# Altium footprint library pcb_lib_own_.PcbLib: 26 footprints (part 2 of 2)
Each footprint in its own frame and in the unit in brackets; x right, y up, seen from the top. Pads: shape width x height; smd on the part's side, far side on the other; paste and mask are expansions set on the pad; w line width, h text height; cw(c..) or ccw(c..) is an arc to the next point about the centre after c.
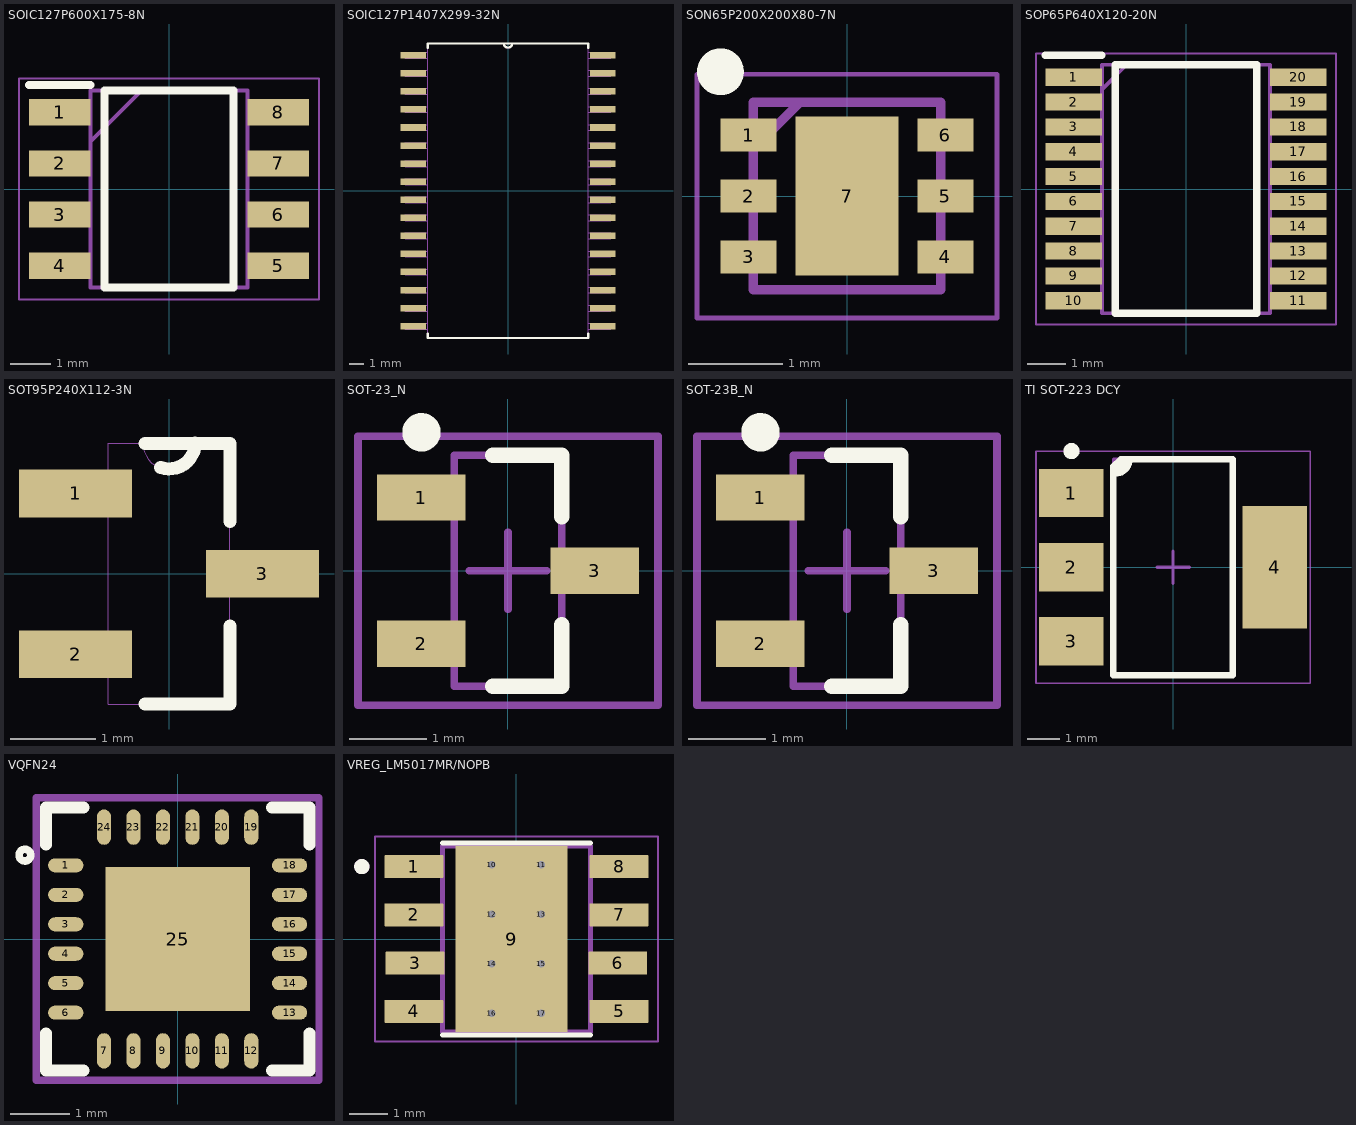
[diagram p1: the footprints below, top view; thin cyan lines are the x and y axes]

## SOIC127P600X175-8N [mm]
pads (8):
  rect 1.525x0.65 smd: 1(-2.712,1.905) 2(-2.712,0.635) 3(-2.712,-0.635) 4(-2.712,-1.905) 5(2.712,-1.905) 6(2.712,-0.635) 7(2.712,0.635) 8(2.712,1.905)
Top Overlay:
  lines w0.2: -3.475,2.58 -1.95,2.58 ; -1.6,-2.45 -1.6,2.45 1.6,2.45 1.6,-2.45 -1.6,-2.45
Mechanical 13:
  lines w0.1: -1.95,1.18 -0.68,2.45 ; -1.95,-2.45 -1.95,2.45 1.95,2.45 1.95,-2.45 -1.95,-2.45
Mechanical 15:
  lines w0.05: -3.725,-2.75 -3.725,2.75 3.725,2.75 3.725,-2.75 -3.725,-2.75
3D body "NE555DR.stp": height 1.75, standoff 0, extent -3,-2.45 3,2.45

## SOIC127P1407X299-32N [mil]
pads (32):
  rect 71x18 smd: 1(-262,375) 2(-262,325) 3(-262,275) 4(-262,225) 5(-262,175) 6(-262,125) 7(-262,75) 8(-262,25) 9(-262,-25) 10(-262,-75) 11(-262,-125) 12(-262,-175) 13(-262,-225) 14(-262,-275) 15(-262,-325) 16(-262,-375) 17(262,-375) 18(262,-325) 19(262,-275) 20(262,-225) 21(262,-175) 22(262,-125) 23(262,-75) 24(262,-25) 25(262,25) 26(262,75) 27(262,125) 28(262,175) 29(262,225) 30(262,275) 31(262,325) 32(262,375)
Top Overlay:
  lines w6: -222,-396 -222,-408 222,-408 222,-396 ; -222,396 -222,408 -12,408 ; 222,396 222,408 12,408 ; -12,408 ccw(c0,408) 12,408 ; -12,408 12,408
Mechanical 13:
  lines w0: -12,408 ccw(c0,408) 12,408 ; -12,408 12,408 ; -12,408 -222,408 -222,-408 222,-408 222,408 12,408 ; -284,-383 -284,-367 -222,-367 -222,-383 -284,-383 ; -284,-333 -284,-317 -222,-317 -222,-333 -284,-333 ; -284,-283 -284,-267 -222,-267 -222,-283 -284,-283 ; -284,-233 -284,-217 -222,-217 -222,-233 -284,-233 ; -284,-183 -284,-167 -222,-167 -222,-183 -284,-183 ; -284,-133 -284,-117 -222,-117 -222,-133 -284,-133 ; -284,-83 -284,-67 -222,-67 -222,-83 -284,-83 ; -284,-33 -284,-17 -222,-17 -222,-33 -284,-33 ; -284,17 -284,33 -222,33 -222,17 -284,17 ; -284,67 -284,83 -222,83 -222,67 -284,67 ; -284,117 -284,133 -222,133 -222,117 -284,117 ; -284,167 -284,183 -222,183 -222,167 -284,167 ; -284,217 -284,233 -222,233 -222,217 -284,217 ; -284,267 -284,283 -222,283 -222,267 -284,267 ; -284,317 -284,333 -222,333 -222,317 -284,317 ; -284,367 -284,383 -222,383 -222,367 -284,367 ; 222,-383 222,-367 284,-367 284,-383 222,-383 ; 222,-333 222,-317 284,-317 284,-333 222,-333 ; 222,-283 222,-267 284,-267 284,-283 222,-283 ; 222,-233 222,-217 284,-217 284,-233 222,-233 ; 222,-183 222,-167 284,-167 284,-183 222,-183 ; 222,-133 222,-117 284,-117 284,-133 222,-133 ; 222,-83 222,-67 284,-67 284,-83 222,-83 ; 222,-33 222,-17 284,-17 284,-33 222,-33 ; 222,17 222,33 284,33 284,17 222,17 ; 222,67 222,83 284,83 284,67 222,67 ; 222,117 222,133 284,133 284,117 222,117 ; 222,167 222,183 284,183 284,167 222,167 ; 222,217 222,233 284,233 284,217 222,217 ; 222,267 222,283 284,283 284,267 222,267 ; 222,317 222,333 284,333 284,317 222,317 ; 222,367 222,383 284,383 284,367 222,367
3D body "AS6C1008-55SIN.stp": height 117.99, standoff 0, extent -282.5,-408.46 272.5,408.46

## SON65P200X200X80-7N [mm]
pads (7):
  rect 0.6x0.35 smd: 1(-1.05,0.65) 2(-1.05,0) 3(-1.05,-0.65) 4(1.05,-0.65) 5(1.05,0) 6(1.05,0.65)
  rect 1.1x1.7 smd: 7(0,0)
Top Overlay:
  circle w0.25: c-1.35,1.325 r0.125
Mechanical 13:
  lines w0.1: -1,0.5 -0.5,1 ; -1,-1 -1,1 1,1 1,-1 -1,-1
Mechanical 15:
  lines w0.05: -1.6,-1.3 -1.6,1.3 1.6,1.3 1.6,-1.3 -1.6,-1.3
3D body "LP5912-3.3DRVR.stp": height 0.8, standoff 0, extent -1,-1 1,1

## SOP65P640X120-20N [mm]
pads (20):
  rect 1.475x0.45 smd: 1(-2.938,2.925) 2(-2.938,2.275) 3(-2.938,1.625) 4(-2.938,0.975) 5(-2.938,0.325) 6(-2.938,-0.325) 7(-2.938,-0.975) 8(-2.938,-1.625) 9(-2.938,-2.275) 10(-2.938,-2.925) 11(2.938,-2.925) 12(2.938,-2.275) 13(2.938,-1.625) 14(2.938,-0.975) 15(2.938,-0.325) 16(2.938,0.325) 17(2.938,0.975) 18(2.938,1.625) 19(2.938,2.275) 20(2.938,2.925)
Top Overlay:
  lines w0.2: -3.675,3.5 -2.2,3.5 ; -1.85,-3.25 1.85,-3.25 1.85,3.25 -1.85,3.25 -1.85,-3.25
Mechanical 13:
  lines w0.1: -2.2,2.6 -1.55,3.25 ; -2.2,-3.25 2.2,-3.25 2.2,3.25 -2.2,3.25 -2.2,-3.25
Mechanical 15:
  lines w0.05: -3.925,-3.55 3.925,-3.55 3.925,3.55 -3.925,3.55 -3.925,-3.55
3D body "PCF8574PWR.stp": height 1.13, standoff 0, extent -3.2,-3.25 3.2,3.25

## SOT95P240X112-3N [mil]
pads (3):
  rect 52x22 smd: 1(-43,37) 2(-43,-37) 3(43,0)
Top Overlay:
  lines w6: -11,-60 28,-60 28,-24 ; -11,60 12,60 28,60 28,24 ; -3.9,48.96 ccw(c0.15,60.1) 12,60.1
Mechanical 13:
  lines w0: -28,-47 -52,-47 -52,-28 -28,-28 ; -28,-47 -28,-28 ; -28,-47 -28,-60 28,-60 28,-10 ; -28,-28 -28,28 ; -28,28 -52,28 -52,47 -28,47 ; -28,28 -28,47 ; -28,47 -28,60 -12,60 ; -12,60 ccw(c0,60) 12,60 ; -12,60 12,60 ; 12,60 28,60 28,10 ; 28,-10 52,-10 52,10 28,10 ; 28,-10 28,10
3D body "IRLML6344TRPBF.STEP": height 44.09, standoff 0, extent -54.41,-57.48 44.41,57.48

## SOT-23_N [mm] "SOT23, 3-Leads, Body 2.9x1.3mm, Pitch 0.95mm, Lead Span 2.5mm, IPC Medium Density"
height 1.1
pads (3):
  rect 1.15x0.6 smd: 1(-1.125,0.95) 2(-1.125,-0.95) 3(1.125,0)
Top Overlay:
  circle w0.25: c-1.125,1.8 r0.125
  lines w0.2: -0.2,-1.5 0.7,-1.5 0.7,-0.7 ; -0.2,1.5 0.7,1.5 0.7,0.7
Mechanical 13:
  lines w0.1: -0.7,-1.5 -0.7,1.5 0.7,1.5 0.7,-1.5 -0.7,-1.5
Mechanical 15:
  lines w0.1: -0.5,0 0.5,0 ; 0,-0.5 0,0.5 ; -1.95,-1.75 -1.95,1.75 1.95,1.75 1.95,-1.75 -1.95,-1.75
3D body: height 1.1, standoff 0, extent -0.7,-1.5 0.7,1.5

## SOT-23B_N [mm] "SOT23, 3-Leads, Body 2.9x1.3mm, Pitch 0.95mm, Lead Span 2.4mm, IPC Medium Density"
height 1.14
pads (3):
  rect 1.15x0.6 smd: 1(-1.125,0.95) 2(-1.125,-0.95) 3(1.125,0)
Top Overlay:
  circle w0.25: c-1.125,1.8 r0.125
  lines w0.2: -0.2,-1.5 0.7,-1.5 0.7,-0.7 ; -0.2,1.5 0.7,1.5 0.7,0.7
Mechanical 13:
  lines w0.1: -0.7,-1.5 -0.7,1.5 0.7,1.5 0.7,-1.5 -0.7,-1.5
Mechanical 15:
  lines w0.1: -0.5,0 0.5,0 ; 0,-0.5 0,0.5 ; -1.95,-1.75 -1.95,1.75 1.95,1.75 1.95,-1.75 -1.95,-1.75
3D body: height 1.14, standoff 0, extent -0.7,-1.5 0.7,1.5

## TI SOT-223 DCY [mm] "SOT223, 4-Leads, Body 6.50x7.00mm (avg), Pitch 2.30mm, IPC Medium Density"
height 1.8
pads (4):
  rect 2x1.5 smd: 1(-3.15,2.3) 2(-3.15,0) 3(-3.15,-2.3)
  rect 2x3.8 smd: 4(3.15,0)
Top Overlay:
  circle w0.25: c-3.15,3.6 r0.125
  region: -1.65,3.275 -1.35,3.35 -1.35,3.2 -1.65,2.9 -1.85,2.9
  lines w0.2: -1.85,2.9 -1.8,2.9 ccw(c-1.8,3.35) -1.35,3.35 ; -1.85,-3.35 1.85,-3.35 1.85,3.35 -1.625,3.35 -1.85,3.125 -1.85,-3.35
Mechanical 13:
  lines w0.1: -1.85,-3.35 -1.85,3.35 1.85,3.35 1.85,-3.35 -1.85,-3.35
Mechanical 15:
  lines w0.05: -4.25,-3.6 -4.25,3.6 4.25,3.6 4.25,-3.6 -4.25,-3.6
  lines w0.1: -0.5,0 0.5,0 ; 0,-0.5 0,0.5
3D body "SOT-223.STEP": height 1.8, standoff 0, extent -3.516,-3.25 3.5,3.25

## VQFN24 [mm]
pads (25):
  oval 0.6x0.24 smd: 1(-1.9,1.25) 2(-1.9,0.75) 3(-1.9,0.25) 4(-1.9,-0.25) 5(-1.9,-0.75) 6(-1.9,-1.25) 13(1.9,-1.25) 14(1.9,-0.75) 15(1.9,-0.25) 16(1.9,0.25) 17(1.9,0.75) 18(1.9,1.25)
  oval 0.24x0.6 smd: 7(-1.25,-1.9) 8(-0.75,-1.9) 9(-0.25,-1.9) 10(0.25,-1.9) 11(0.75,-1.9) 12(1.25,-1.9) 19(1.25,1.9) 20(0.75,1.9) 21(0.25,1.9) 22(-0.25,1.9) 23(-0.75,1.9) 24(-1.25,1.9)
  rect 2.45x2.45 smd: 25(0,0)
Top Overlay:
  circle w0.127: c-2.594,1.424 r0.1
  lines w0.203: -2.235,-1.6 -2.235,-2.235 -1.6,-2.235 ; -2.235,1.6 -2.235,2.235 -1.6,2.235 ; 1.6,-2.235 2.235,-2.235 2.235,-1.6 ; 1.6,2.235 2.235,2.235 2.235,1.6
Mechanical 15:
  lines w0.127: -2.4,-2.4 2.4,-2.4 2.4,2.4 -2.4,2.4 -2.4,-2.4
3D body "step_temp.STEP": height 1, standoff 0, extent -2,-2.032 2,1.968

## VREG_LM5017MR/NOPB [mm]
pads (17):
  rrect5% 1.55x0.6 smd mask+0: 1(-2.7,1.905) 2(-2.7,0.635) 3(-2.667,-0.635) 4(-2.7,-1.905) 5(2.7,-1.905) 6(2.667,-0.635) 7(2.7,0.635) 8(2.7,1.905)
  rect 2.95x4.9 smd paste-3 mask+0: 9(-0.127,0)
  round 0.3 hole 0.2: 10(-0.65,1.95) 11(0.65,1.95) 12(-0.65,0.65) 13(0.65,0.65) 14(-0.65,-0.65) 15(0.65,-0.65) 16(-0.65,-1.95) 17(0.65,-1.95)
Top Overlay:
  circle w0.2: c-4.07,1.905 r0.1
  lines w0.127: -1.95,-2.525 1.95,-2.525 ; -1.95,2.525 1.95,2.525
Top Paste:
  region: 1.355,-1.7 -1.355,-1.7 -1.355,1.7 1.355,1.7
Top Solder:
  drawing of 9 lines, arcs and shapes, not listed
Mechanical 13:
  circle w0.2: c-4.07,1.905 r0.1
  lines w0.127: -1.95,-2.45 1.95,-2.45 1.95,2.45 -1.95,2.45 -1.95,-2.45
Mechanical 15:
  lines w0.05: -3.725,-2.7 3.725,-2.7 3.725,2.7 -3.725,2.7 -3.725,-2.7
3D body: height 1.7, standoff 0, extent -3.127,-2.45 2.873,2.45